# Altium integrated library Bike_Comp.IntLib: 3 symbols
Pins are listed as number, name and electrical type; pins without a type are passive.

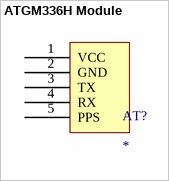
[diagram p0: symbol ATGM336H Module]

## ATGM336H Module
designator AT?
ATGM336H Module
footprint PCBComponent_1
pins: 1 VCC, 2 GND, 3 TX, 4 RX, 5 PPS


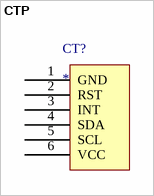
[diagram p1: symbol CTP]

## CTP
designator CT?
footprint FPC0.5-WT-6P (长：7.2mm，宽：5.2mm，高：2mm               黄晶宝石)
pins: 1 GND, 2 RST, 3 INT, 4 SDA, 5 SCL, 6 VCC


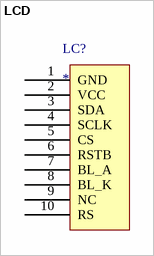
[diagram p2: symbol LCD]

## LCD
designator LC?
footprint FPC0.5-WT-10P (长：9.2mm，宽：5.2mm，高：2mm 淘宝ID:黄晶宝石   店铺网址:https://shop463601444.taobao.com)
pins: 1 GND, 2 VCC, 3 SDA, 4 SCLK, 5 CS, 6 RSTB, 7 BL_A, 8 BL_K, 9 NC, 10 RS